# EAGLE library part WT21-A (library X893)
http://www.terraelectronica.ru/pdf/BLUEGIGA/WT21.pdf
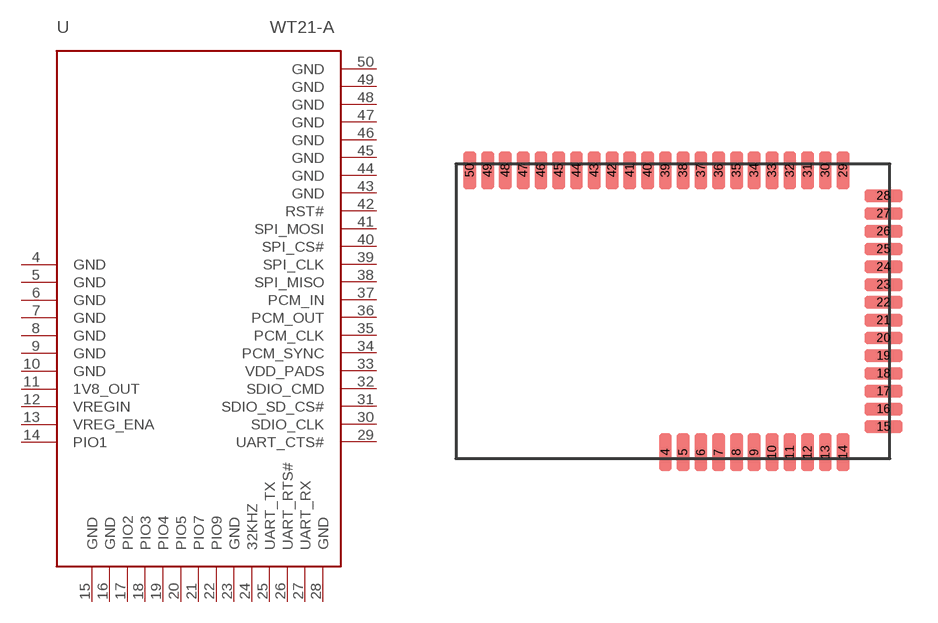
[diagram p93: symbol with the pads of WT21-A; footprint WT21-A]

Designator prefix U

## WT21-A  [WT21-A]
4  GND  sup
5  GND  sup
6  GND  sup
7  GND  sup
8  GND  sup
9  GND  sup
10  GND  sup
11  1V8_OUT  pas
12  VREGIN  pas
13  VREG_ENA  pas
14  PIO1
15  GND  sup
16  GND  sup
17  PIO2
18  PIO3
19  PIO4
20  PIO5
21  PIO7
22  PIO9
23  GND  sup
24  32KHZ
25  UART_TX
26  UART_RTS#  pas
27  UART_RX
28  GND  sup
29  UART_CTS#
30  SDIO_CLK
31  SDIO_SD_CS#
32  SDIO_CMD
33  VDD_PADS
34  PCM_SYNC
35  PCM_CLK  pas
36  PCM_OUT  pas
37  PCM_IN  pas
38  SPI_MISO  pas
39  SPI_CLK  pas
40  SPI_CS#  pas
41  SPI_MOSI  pas
42  RST#  pas
43  GND  sup
44  GND  sup
45  GND  sup
46  GND  sup
47  GND  sup
48  GND  sup
49  GND  sup
50  GND  sup

## Footprint WT21-A (pad centres in mm)
http://www.terraelectronica.ru/pdf/BLUEGIGA/WT21.pdf
smd 0.5 x 1.5: 4 -8.84,-11.35; 5 -8.14,-11.35; 6 -7.44,-11.35; 7 -6.74,-11.35; 8 -6.04,-11.35; 9 -5.34,-11.35; 10 -4.64,-11.35; 11 -3.94,-11.35; 12 -3.24,-11.35; 13 -2.54,-11.35; 14 -1.84,-11.35; 29 -1.84,-0.25; 30 -2.54,-0.25; 31 -3.24,-0.25; 32 -3.94,-0.25; 33 -4.64,-0.25; 34 -5.34,-0.25; 35 -6.04,-0.25; 36 -6.74,-0.25; 37 -7.44,-0.25; 38 -8.14,-0.25; 39 -8.84,-0.25; 40 -9.54,-0.25; 41 -10.24,-0.25; 42 -10.94,-0.25; 43 -11.64,-0.25; 44 -12.34,-0.25; 45 -13.04,-0.25; 46 -13.74,-0.25; 47 -14.44,-0.25; 48 -15.14,-0.25; 49 -15.84,-0.25; 50 -16.54,-0.25
smd 1.5 x 0.5: 15 -0.25,-10.35; 16 -0.25,-9.65; 17 -0.25,-8.95; 18 -0.25,-8.25; 19 -0.25,-7.55; 20 -0.25,-6.85; 21 -0.25,-6.15; 22 -0.25,-5.45; 23 -0.25,-4.75; 24 -0.25,-4.05; 25 -0.25,-3.35; 26 -0.25,-2.65; 27 -0.25,-1.95; 28 -0.25,-1.25